# Altium footprint library SHDR10W87P0X254_1X10_2525X635X1105P.PcbLib: 1 footprints
Each footprint in its own frame and in the unit in brackets; x right, y up, seen from the top. Pads: shape width x height; smd on the part's side, far side on the other; paste and mask are expansions set on the pad; w line width, h text height; cw(c..) or ccw(c..) is an arc to the next point about the centre after c.
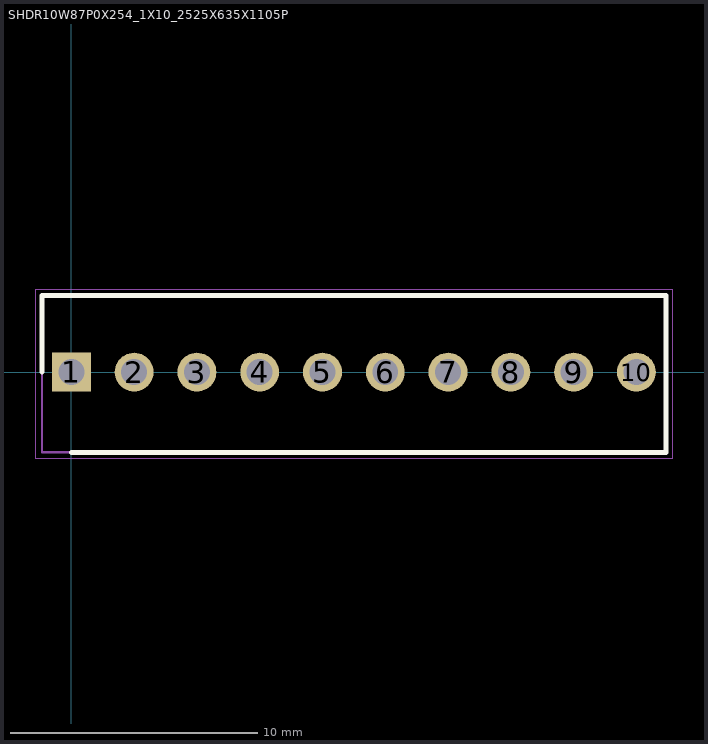
[diagram p0: the footprint, top view; thin cyan lines are the x and y axes]

## SHDR10W87P0X254_1X10_2525X635X1105P [mm]
pads (10):
  rect 1.575x1.575 / inner round 1.575 / far side rect 1.575x1.575 hole 1.05: 1(0,0)
  round 1.575 hole 1.05: 2(2.54,0) 3(5.08,0) 4(7.62,0) 5(10.16,0) 6(12.7,0) 7(15.24,0) 8(17.78,0) 9(20.32,0) 10(22.86,0)
Top Overlay:
  lines w0.2: -1.19,0 -1.19,3.1 24.06,3.1 24.06,-3.25 0,-3.25
Mechanical 15:
  lines w0.1: -1.19,-3.25 -1.19,3.1 24.06,3.1 24.06,-3.25 -1.19,-3.25
Mechanical 20:
  lines w0.05: -1.44,-3.5 -1.44,3.35 24.31,3.35 24.31,-3.5 -1.44,-3.5